# Altium footprint library OSU_KBD_PCBLIB.PcbLib: 7 footprints
Each footprint in its own frame and in the unit in brackets; x right, y up, seen from the top. Pads: shape width x height; smd on the part's side, far side on the other; paste and mask are expansions set on the pad; w line width, h text height; cw(c..) or ccw(c..) is an arc to the next point about the centre after c.
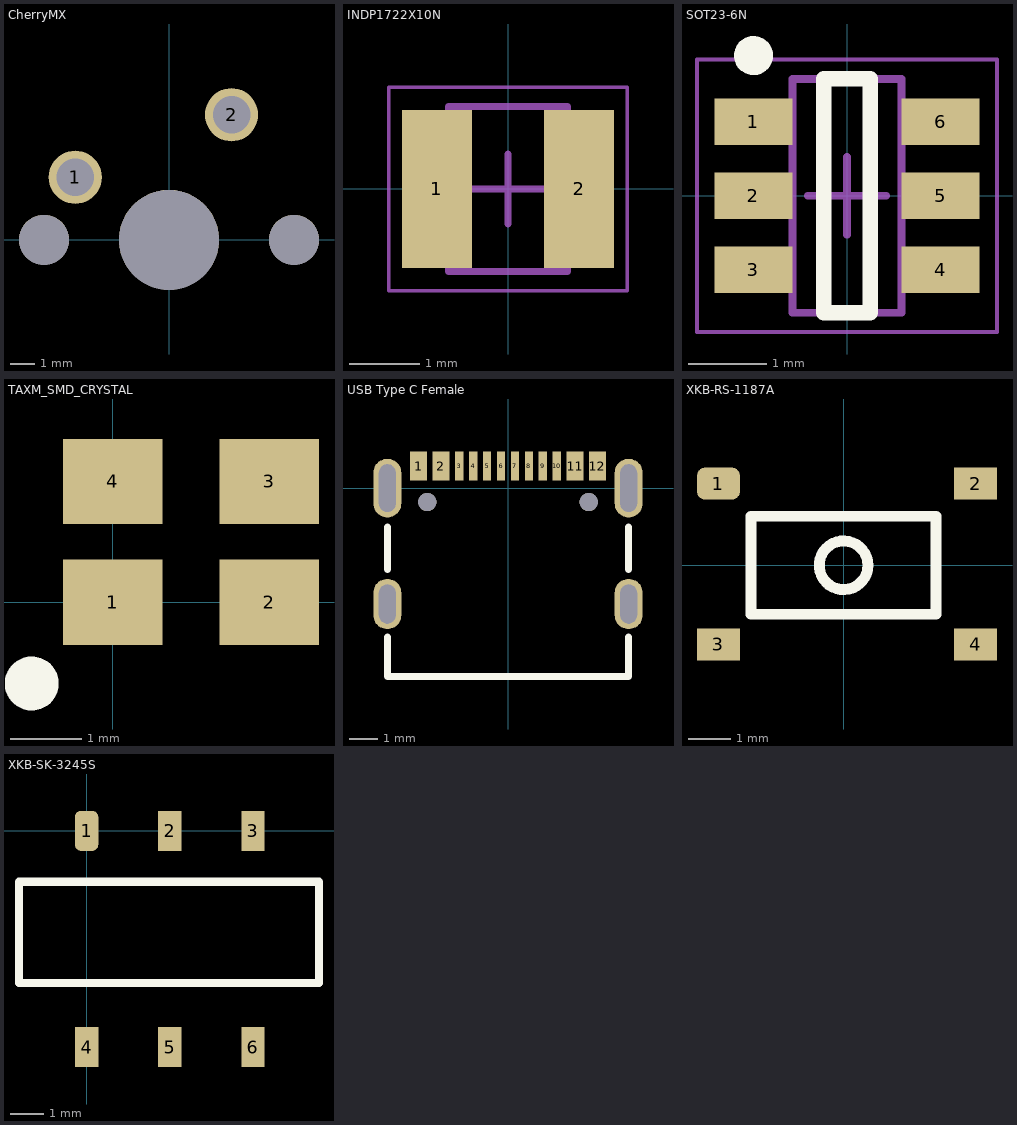
[diagram p0: the footprints below, top view; thin cyan lines are the x and y axes]

## CherryMX [mil]
pads (5):
  round 85 hole 60: 1(-150,100) 2(100,200)
  round 80 hole 80 unplated: ""(-200,0) ""(200,0)
  round 160 hole 160 unplated: ""(0,0)
3D body "MX .STEP": height 620.08, standoff -124.02, extent -305,-307.09 309.17,307.09

## INDP1722X10N [mm] "Precision Wire Wound Inductor, 2-Leads, Body 1.67x2.15mm, IPC Medium Density"
height 1
pads (2):
  rect 1x2.25 smd: 1(-1.016,0) 2(1.016,0)
Mechanical 13:
  lines w0.1: -0.85,-1.175 0.85,-1.175 0.85,1.175 -0.85,1.175 -0.85,-1.175
Mechanical 15:
  lines w0.05: -1.7,-1.45 1.7,-1.45 1.7,1.45 -1.7,1.45 -1.7,-1.45
  lines w0.1: -0.5,0 0.5,0 ; 0,-0.5 0,0.5
3D body "INDP1722X10N.step": height 1.1, standoff 0, extent -1.067,-1.075 1.075,1.075

## SOT23-6N [mm] "SOT23, 6-Leads, Body 2.90x2.45mm, Pitch 0.95mm, IPC Medium Density"
height 1.1
pads (6):
  rect 1x0.6 smd: 1(-1.2,0.95) 2(-1.2,0) 3(-1.2,-0.95) 4(1.2,-0.95) 5(1.2,0) 6(1.2,0.95)
Top Overlay:
  circle w0.25: c-1.2,1.8 r0.125
  lines w0.2: -0.3,-1.5 0.3,-1.5 0.3,1.5 -0.3,1.5 -0.3,-1.5
Mechanical 13:
  lines w0.1: -0.7,-1.5 -0.7,1.5 0.7,1.5 0.7,-1.5 -0.7,-1.5
Mechanical 15:
  lines w0.05: -1.925,-1.75 -1.925,1.75 1.925,1.75 1.925,-1.75 -1.925,-1.75
  lines w0.1: -0.5,0 0.5,0 ; 0,-0.5 0,0.5
3D body "SOT95P245X110-6N.step": height 1.1, standoff 0, extent -1.3,-1.5 1.3,1.5

## TAXM_SMD_CRYSTAL [mm]
pads (4):
  rect 1.4x1.2 smd: 1(0,0) 2(2.2,0) 3(2.2,1.7) 4(0,1.7)
Top Overlay:
  circle w0.4: c-1.143,-1.143 r0.18

## USB Type C Female [mm]
pads (18):
  rect 0.6x1.05 smd mask+0.09: 1(-3.2,0.791) 2(-2.4,0.791) 11(2.4,0.791) 12(3.2,0.791)
  rect 0.3x1.05 smd mask+0.09: 3(-1.75,0.791) 4(-1.25,0.791) 5(-0.75,0.791) 6(-0.25,0.791) 7(0.25,0.791) 8(0.75,0.791) 9(1.25,0.791) 10(1.75,0.791)
  oval 1x1.8 hole 1.4 slot 0.6 at 0 deg: ""(-4.32,-4.15) ""(4.32,-4.15)
  oval 1x2.1 hole 1.7 slot 0.6 at 0 deg: ""(-4.32,0) ""(4.32,0)
  round 0.65 hole 0.65 unplated: ""(-2.89,-0.5) ""(2.89,-0.5)
Top Overlay:
  lines w0.254: -4.318,-5.334 -4.318,-6.75 4.318,-6.75 4.318,-5.334 ; -4.318,-2.921 -4.318,-1.397 ; 4.318,-2.921 4.318,-1.397

## XKB-RS-1187A [mm]
pads (4):
  rrect50% 1x0.75 smd: 1(-2.921,1.905)
  rect 1x0.75 smd: 2(3.079,1.905) 3(-2.921,-1.845) 4(3.079,-1.845)
Top Overlay:
  circle w0.254: c0,0 r0.568
  lines w0.254: -2.159,-1.143 2.159,-1.143 2.159,1.143 -2.159,1.143 -2.159,-1.143

## XKB-SK-3245S [mm]
pads (6):
  rrect50% 0.7x1.2 smd: 1(0,0)
  rect 0.7x1.2 smd: 2(2.5,0) 3(5,0) 4(0,-6.5) 5(2.5,-6.5) 6(5,-6.5)
Top Overlay:
  lines w0.254: -2.032,-4.572 -2.032,-1.524 6.985,-1.524 6.985,-4.572 -2.032,-4.572